# Altium footprint library PcbLib1.PcbLib: 4 footprints
Each footprint in its own frame and in the unit in brackets; x right, y up, seen from the top. Pads: shape width x height; smd on the part's side, far side on the other; paste and mask are expansions set on the pad; w line width, h text height; cw(c..) or ccw(c..) is an arc to the next point about the centre after c.
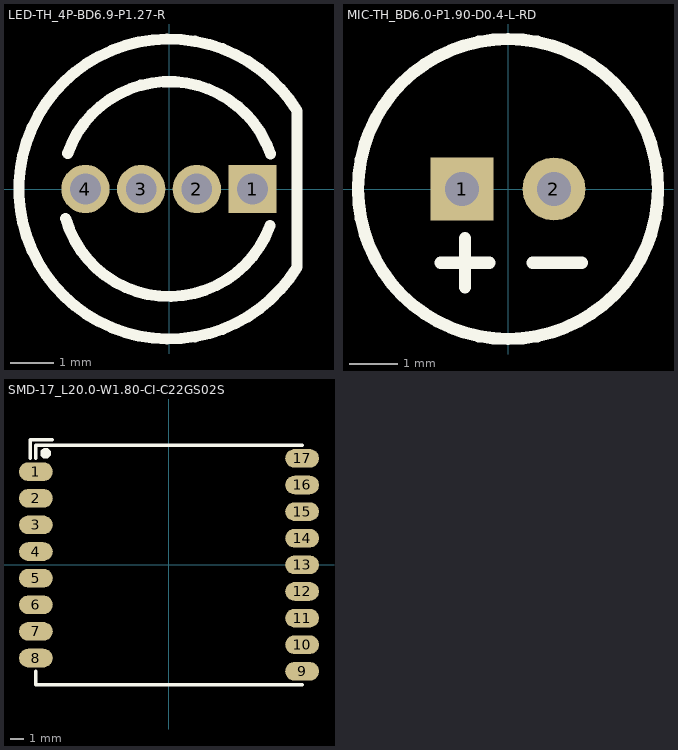
[diagram p0: the footprints below, top view; thin cyan lines are the x and y axes]

## LED-TH_4P-BD6.9-P1.27-R [mm]
pads (4):
  rect 1.1x1.1 hole 0.7: 1(1.905,0)
  round 1.1 hole 0.7: 2(0.635,0) 3(-0.635,0) 4(-1.905,0)
Top Overlay:
  lines w0.254: -2.356,-0.672 ccw(c0,0) 2.302,-0.839 ; -2.31,0.816 cw(c0,0) 2.314,0.805 ; 2.921,-1.778 cw(c0,0) 2.921,1.778 2.921,-1.778

## MIC-TH_BD6.0-P1.90-D0.4-L-RD [mm]
pads (2):
  rect 1.3x1.3 hole 0.7: 1(-0.95,0)
  round 1.3 hole 0.7: 2(0.95,0)
Top Overlay:
  circle w0.254: c0,0 r3.1
  lines w0.254: -1.397,-1.524 -0.381,-1.524 ; -0.889,-2.032 -0.889,-1.016 ; 0.508,-1.524 1.524,-1.524

## PCBComponent_1 [mm]

## SMD-17_L20.0-W1.80-CI-C22GS02S [mm]
pads (17):
  oval 2.54x1.4 smd: 1(-10,7) 2(-10,5) 3(-10,3) 4(-10,1) 5(-10,-1) 6(-10,-3) 7(-10,-5) 8(-10,-7) 9(10,-8) 10(10,-6) 11(10,-4) 12(10,-2) 13(10,0) 14(10,2) 15(10,4) 16(10,6) 17(10,8)
Top Overlay:
  circle w0.4: c-9.271,8.382 r0.2
  lines w0.254: -10.414,8.001 -10.414,9.398 -8.763,9.398 ; -10,-8 -10,-9 10,-9 ; -10,8 -10,9 10,9 ; -8.763,9.398 -8.763,9.398
Mechanical 15:
  circle w0.5: c-9.525,6.985 r0.25